# Altium footprint library 10-DFN-ADI.PcbLib: 1 footprints
Each footprint in its own frame and in the unit in brackets; x right, y up, seen from the top. Pads: shape width x height; smd on the part's side, far side on the other; paste and mask are expansions set on the pad; w line width, h text height; cw(c..) or ccw(c..) is an arc to the next point about the centre after c.
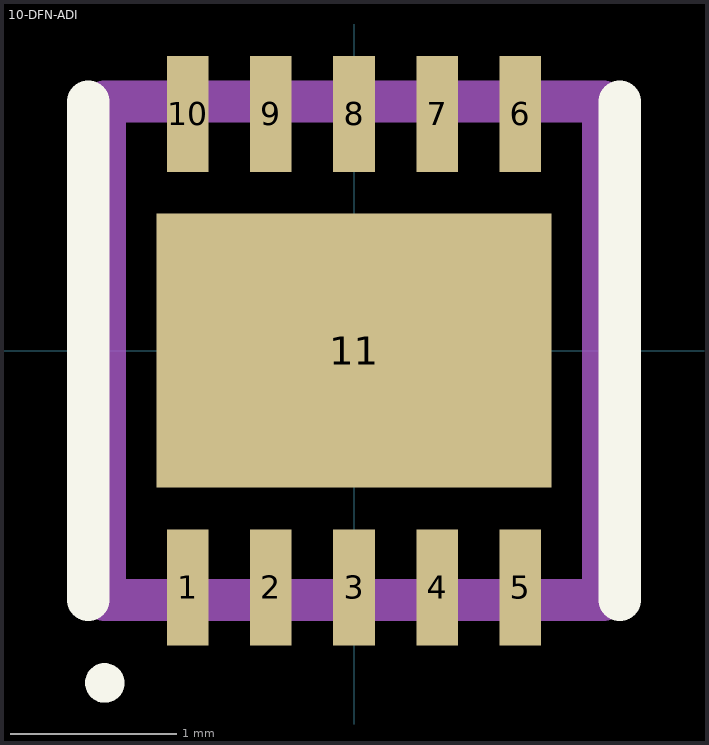
[diagram p0: the footprint, top view; thin cyan lines are the x and y axes]

## 10-DFN-ADI [mm]
pads (11):
  rect 0.25x0.7 smd mask+0.051: 1(-1,-1.425) 2(-0.5,-1.425) 3(0,-1.425) 4(0.5,-1.425) 5(1,-1.425) 6(1,1.425) 7(0.5,1.425) 8(0,1.425) 9(-0.5,1.425) 10(-1,1.425)
  rect 2.38x1.65 smd mask+0.051: 11(0,0)
Top Overlay:
  circle w0.127: c-1.5,-2 r0.056
  lines w0.254: -1.6,-1.5 -1.6,1.5 ; 1.6,-1.5 1.6,1.5
Mechanical 13:
  lines w0.254: -1.5,-1.5 -1.5,1.5 1.5,1.5 1.5,-1.5 -1.5,-1.5
Mechanical 15:
  lines w0.254: -0.5,0 0,0 ; 0,-0.5 0,0 ; 0,0.5 0,0 ; 0.5,0 0,0
3D body "User Library-DFN10(3x3).step": height 0.76, standoff 0, extent -1.5,-1.501 1.5,1.501